# EAGLE library part HD44780-LCD (library lcd-hd44780)
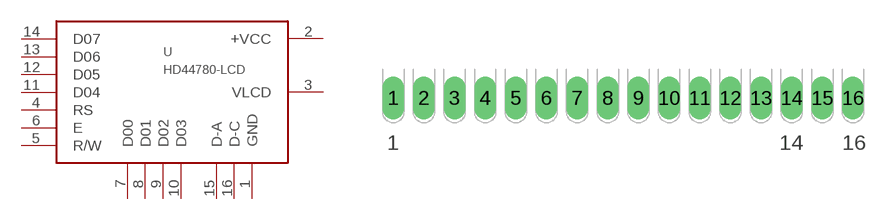
[diagram p0: symbol with the pads of HD44780; footprint HD44780]

Designator prefix -

## HD44780-LCD  [HD44780]
1  GND
2  +VCC
3  VLCD
4  RS
5  R/W
6  E
7  D00
8  D01
9  D02
10  D03
11  D04
12  D05
13  D06
14  D07
15  D-A
16  D-C

## Footprint HD44780 (pad centres in mm)
drill 1.016 pad 1.778 long: 1 -20.325,0.007; 2 -17.785,0.007; 3 -15.245,0.007; 4 -12.705,0.007; 5 -10.165,0.007; 6 -7.625,0.007; 7 -5.085,0.007; 8 -2.545,0.007; 9 -0.005,0.007; 10 2.535,0.007; 11 5.075,0.007; 12 7.615,0.007; 13 10.155,0.007; 14 12.695,0.007; 15 15.235,0.007; 16 17.775,0.007